# Altium schematic symbol library Electro-Mechanical.SchLib: 24 symbols (part 2 of 2)
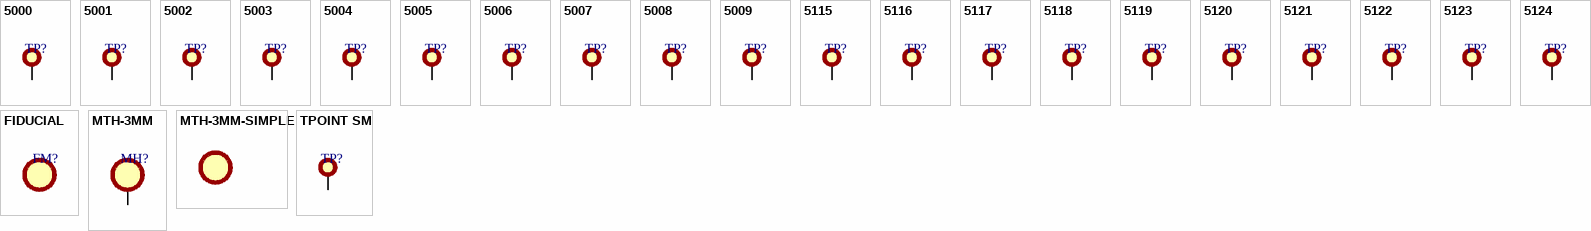
[diagram p1: symbols 5000 to TPOINT SM]

## 5122
designator TP?, comment BLUE TEST POINT  (value not drawn)
PC TEST POINT COMPACT BLUE; Manufacturer: Keystone; Manufacturer Part Number: 5122; Description: Test Point, Compact, Thm, Pc, .350 L, .125 Od, Heat Resistant Nylon 46, Blue; Body Material: PBT; Supplier: DigiKey; Supplier Part Number: 36-5122-ND; RoHS: Compliant; Category: Test Points; Stock: 10761; Pricing: 1=0.39, 10=0.293, 25=0.2624, 100=0.2223, 500=0.19, 2500=0.16, 5000=0.14312 (USD); Color: Blue; Contact Material: Bronze; Contact Plating: Silver; Flammability Rating: UL94 V-0; Height: 8.89mm; Lead Free: Lead Free; Lifecycle Status: Production; Material: Bronze, Nylon; Max Operating Temperature: 85°C; Min Operating Temperature: -45°C; Mounting Technology: PCB, Through Hole; Packaging: Bulk; REACH SVHC: Yes; ComponentLink1URL: https://datasheet.octopart.com:443/5122-Keystone-datasheet-47124280.pdf?src-supplier=IHS; ComponentLink1Description: https://datasheet.octopart.com:443/5122-Keystone-datasheet-47124280.pdf?src-supplier=IHS; ComponentLink2URL: https://datasheet.octopart.com:443/5122-Keystone-datasheet-15716159.pdf?src-supplier=Newark; ComponentLink2Description: https://datasheet.octopart.com:443/5122-Keystone-datasheet-15716159.pdf?src-supplier=Newark; ComponentLink3URL: https://datasheet.octopart.com:443/5122-Keystone-datasheet-60278094.pdf?src-supplier=Future+Electronics; ComponentLink3Description: https://datasheet.octopart.com:443/5122-Keystone-datasheet-60278094.pdf?src-supplier=Future+Electronics; ComponentLink4URL: https://datasheet.octopart.com:443/5122-Keystone-datasheet-10925273.pdf?src-supplier=RS+(Formerly+Allied+Electronics); ComponentLink4Description: https://datasheet.octopart.com:443/5122-Keystone-datasheet-10925273.pdf?src-supplier=RS+(Formerly+Allied+Electronics); ComponentLink5URL: https://datasheet.octopart.com:443/5122-Keystone-datasheet-9590016.pdf?src-supplier=RS+(Formerly+Allied+Electronics); ComponentLink5Description: https://datasheet.octopart.com:443/5122-Keystone-datasheet-9590016.pdf?src-supplier=RS+(Formerly+Allied+Electronics)
footprint TEST_POINT_TH_3P18X5P59MM_BLUE
pins: 1 TP

## 5123
designator TP?, comment GREY TEST POINT  (value not drawn)
PC TEST POINT COMPACT GREY; Manufacturer: Keystone; Manufacturer Part Number: 5123; Description: Test Point; Compact; THM; PC; .350 L; .125 OD; Heat Resistant Nylon 46; Grey; Body Material: PBT; Supplier: DigiKey; Supplier Part Number: 36-5123-ND; RoHS: Compliant; Category: Test Points; Stock: 4125; Pricing: 1=0.39, 10=0.293, 25=0.2624, 100=0.2223, 500=0.19, 2500=0.16, 5000=0.14312 (USD); Color: Grey; Contact Material: Bronze; Contact Plating: Silver; Flammability Rating: UL94 V-0; Height: 8.89mm; Lead Free: Lead Free; Lifecycle Status: Production; Material: Bronze, Nylon; Max Operating Temperature: 85°C; Min Operating Temperature: -45°C; Mounting Technology: PCB, Through Hole; Packaging: Bulk; REACH SVHC: Yes; ComponentLink1URL: https://datasheet.octopart.com:443/5123-Keystone-datasheet-47124280.pdf?src-supplier=IHS; ComponentLink1Description: https://datasheet.octopart.com:443/5123-Keystone-datasheet-47124280.pdf?src-supplier=IHS; ComponentLink2URL: https://datasheet.octopart.com:443/5123-Keystone-datasheet-15716159.pdf?src-supplier=Newark; ComponentLink2Description: https://datasheet.octopart.com:443/5123-Keystone-datasheet-15716159.pdf?src-supplier=Newark; ComponentLink3URL: https://datasheet.octopart.com:443/5123-Keystone-datasheet-60278094.pdf?src-supplier=Future+Electronics; ComponentLink3Description: https://datasheet.octopart.com:443/5123-Keystone-datasheet-60278094.pdf?src-supplier=Future+Electronics; ComponentLink4URL: https://datasheet.octopart.com:443/5123-Keystone-datasheet-10925273.pdf?src-supplier=RS+(Formerly+Allied+Electronics); ComponentLink4Description: https://datasheet.octopart.com:443/5123-Keystone-datasheet-10925273.pdf?src-supplier=RS+(Formerly+Allied+Electronics); ComponentLink5URL: https://datasheet.octopart.com:443/5123-Keystone-datasheet-9590016.pdf?src-supplier=RS+(Formerly+Allied+Electronics); ComponentLink5Description: https://datasheet.octopart.com:443/5123-Keystone-datasheet-9590016.pdf?src-supplier=RS+(Formerly+Allied+Electronics)
footprint TEST_POINT_TH_3P18X5P59MM_GREY
pins: 1 TP

## 5124
designator TP?, comment PURPLE TEST POINT  (value not drawn)
PC TEST POINT COMPACT PURPLE; Manufacturer: Keystone; Manufacturer Part Number: 5124; Description: Test Point; Compact; THM; PC; .350 L; .125 OD; Heat Resistant Nylon 46; Purple; Body Material: PBT; Supplier: DigiKey; Supplier Part Number: 36-5124-ND; RoHS: Compliant; Category: Test Points; Stock: 5005; Pricing: 1=0.39, 10=0.293, 25=0.2624, 100=0.2223, 500=0.19, 2500=0.16, 5000=0.14312 (USD); Color: Violet; Contact Material: Bronze; Contact Plating: Silver; Flammability Rating: UL94 V-0; Height: 8.89mm; Lifecycle Status: Production; Material: Nylon; Max Operating Temperature: 85°C; Min Operating Temperature: -45°C; Mounting Technology: PCB; Packaging: Bulk; REACH SVHC: Yes; ComponentLink1URL: https://datasheet.octopart.com:443/5124-Keystone-datasheet-47124280.pdf?src-supplier=IHS; ComponentLink1Description: https://datasheet.octopart.com:443/5124-Keystone-datasheet-47124280.pdf?src-supplier=IHS; ComponentLink2URL: https://datasheet.octopart.com:443/5124-Keystone-datasheet-15716159.pdf?src-supplier=Newark; ComponentLink2Description: https://datasheet.octopart.com:443/5124-Keystone-datasheet-15716159.pdf?src-supplier=Newark; ComponentLink3URL: https://datasheet.octopart.com:443/5124-Keystone-datasheet-60278094.pdf?src-supplier=RS+(Formerly+Allied+Electronics); ComponentLink3Description: https://datasheet.octopart.com:443/5124-Keystone-datasheet-60278094.pdf?src-supplier=RS+(Formerly+Allied+Electronics); ComponentLink4URL: https://datasheet.octopart.com:443/5124-Keystone-datasheet-10925273.pdf?src-supplier=RS+(Formerly+Allied+Electronics); ComponentLink4Description: https://datasheet.octopart.com:443/5124-Keystone-datasheet-10925273.pdf?src-supplier=RS+(Formerly+Allied+Electronics); ComponentLink5URL: https://datasheet.octopart.com:443/5124-Keystone-datasheet-9590016.pdf?src-supplier=RS+(Formerly+Allied+Electronics); ComponentLink5Description: https://datasheet.octopart.com:443/5124-Keystone-datasheet-9590016.pdf?src-supplier=RS+(Formerly+Allied+Electronics)
footprint TEST_POINT_TH_3P18X5P59MM_PURPLE
pins: 1 TP

## FIDUCIAL
designator FM?, comment Fiducial  (value not drawn)  (no BOM)
FIDUCIAL MARKER
footprint FIDUCIAL_MARK

## MTH-3MM
designator MH?, comment Mounting Hole 3mm  (value not drawn)  (no BOM)
MOUNTING HOLE PLATED WITH 3MM
footprint MOUNTING_HOLE_M3
pins: H HOLE

## MTH-3MM-SIMPLE
designator MH?, comment Mounting Hole 3mm  (value not drawn)  (no BOM)
MOUNTING HOLE PLATED WITH 3MM
footprint MOUNTING_HOLE_M3_SIMPLE

## TPOINT SM
designator TP?, comment Test Point  (value not drawn)  (no BOM)
TEST POINT SMD
footprint TEST_POINT_SMD
pins: 1 TP